# Altium schematic symbol library OPA.SchLib: 12 symbols
Pins are listed as number, name and electrical type; pins without a type are passive.

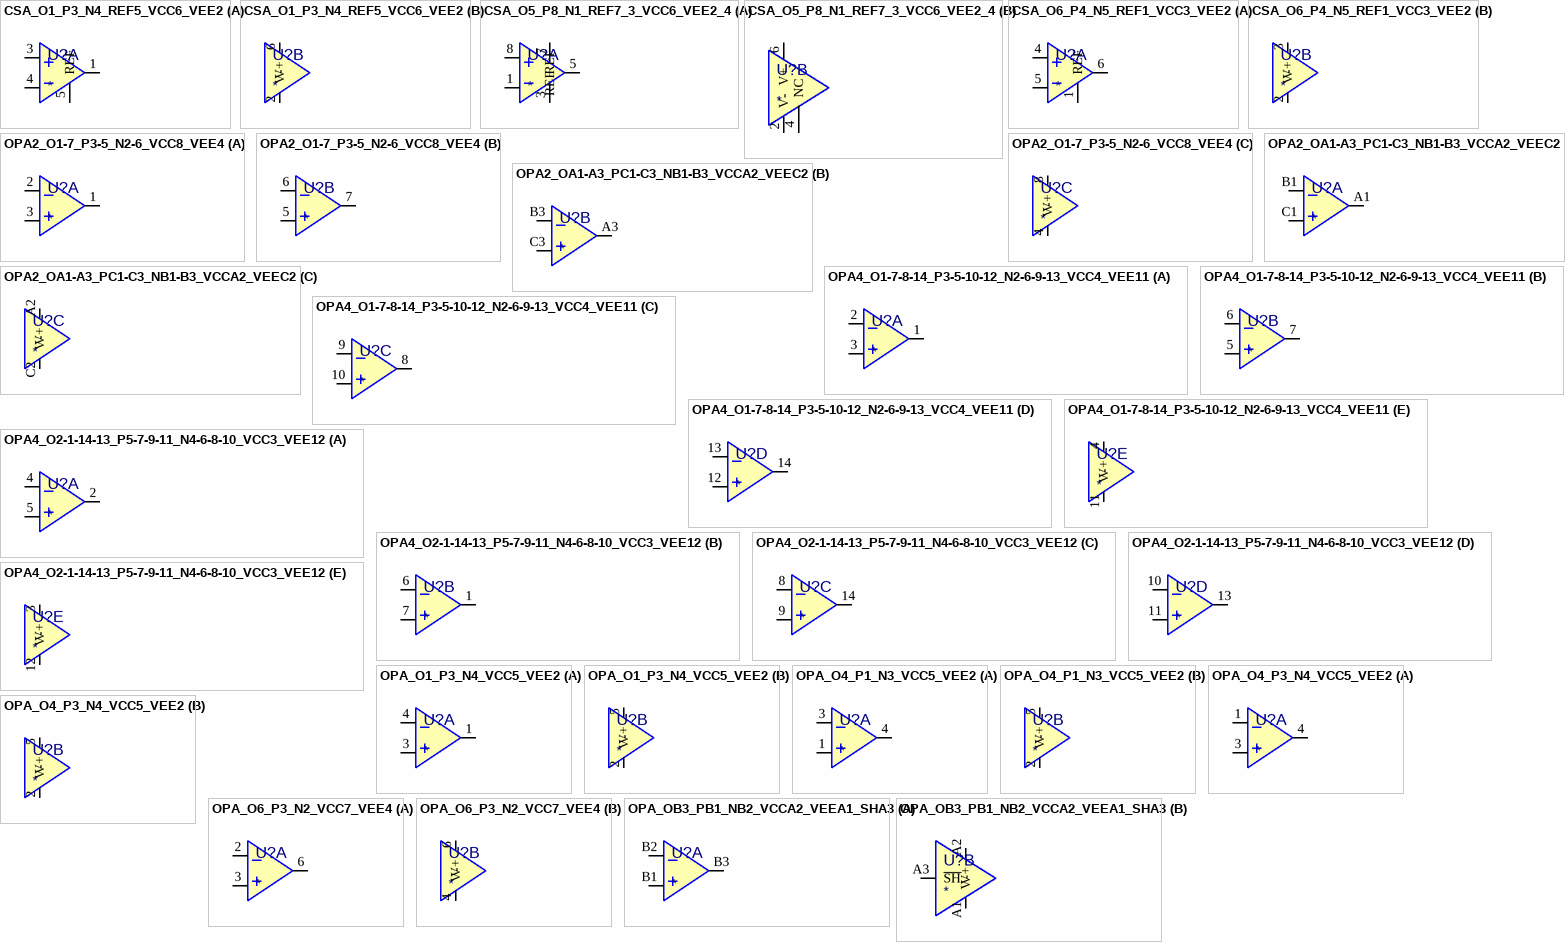
[diagram p0: symbols CSA_O1_P3_N4_REF5_VCC6_VEE2 to OPA_OB3_PB1_NB2_VCCA2_VEEA1_SHA3]

## CSA_O1_P3_N4_REF5_VCC6_VEE2
designator U?
Current sense amplifier
part A pins: 1 OUT, 3 IN+, 4 IN-, 5 REF
part B pins: 2 V-, 6 V+

## CSA_O5_P8_N1_REF7_3_VCC6_VEE2_4
designator U?
Current sense amplifier
part A pins: 1 IN-, 3 REF, 5 OUT, 7 REF, 8 IN+
part B pins: 2 V-, 4 NC, 6 V+

## CSA_O6_P4_N5_REF1_VCC3_VEE2
designator U?
Current sense amplifier
part A pins: 1 REF, 4 IN+, 5 IN-, 6 OUT
part B pins: 2 V-, 3 V+

## OPA2_O1-7_P3-5_N2-6_VCC8_VEE4
designator U?
Dual operational amplifier
part A pins: 1 OUT, 2 IN-, 3 IN+
part B pins: 5 IN+, 6 IN-, 7 OUT
part C pins: 4 V-, 8 V+

## OPA2_OA1-A3_PC1-C3_NB1-B3_VCCA2_VEEC2
designator U?
Dual operational amplifier
part A pins: A1 OUT, B1 IN-, C1 IN+
part B pins: A3 OUT, B3 IN-, C3 IN+
part C pins: A2 V+, C2 V-

## OPA4_O1-7-8-14_P3-5-10-12_N2-6-9-13_VCC4_VEE11
designator U?
Quad operational amplifier
part A pins: 1 OUT, 2 IN-, 3 IN+
part B pins: 5 IN+, 6 IN-, 7 OUT
part C pins: 8 OUT, 9 IN-, 10 IN+
part D pins: 12 IN+, 13 IN-, 14 OUT
part E pins: 4 V+, 11 V-

## OPA4_O2-1-14-13_P5-7-9-11_N4-6-8-10_VCC3_VEE12
designator U?
Quad operational amplifier
part A pins: 2 OUT, 4 IN-, 5 IN+
part B pins: 1 OUT, 6 IN-, 7 IN+
part C pins: 8 IN-, 9 IN+, 14 OUT
part D pins: 10 IN-, 11 IN+, 13 OUT
part E pins: 3 V+, 12 V-

## OPA_O1_P3_N4_VCC5_VEE2
designator U?
Operational amplifier
part A pins: 1 OUT, 3 IN+, 4 IN-
part B pins: 2 V-, 5 V+

## OPA_O4_P1_N3_VCC5_VEE2
designator U?
Operational amplifier
part A pins: 1 IN+, 3 IN-, 4 OUT
part B pins: 2 V-, 5 V+

## OPA_O4_P3_N4_VCC5_VEE2
designator U?
Operational amplifier
part A pins: 1 IN-, 3 IN+, 4 OUT
part B pins: 2 V-, 5 V+

## OPA_O6_P3_N2_VCC7_VEE4
designator U?
Operational amplifier
part A pins: 2 IN-, 3 IN+, 6 OUT
part B pins: 4 V-, 6 V+

## OPA_OB3_PB1_NB2_VCCA2_VEEA1_SHA3
designator U?
Operational amplifier
part A pins: B1 IN+, B2 IN-, B3 OUT
part B pins: A1 V-, A2 V+, A3 ~{SH}